# EAGLE library part 105164-0001 (library 105164-0001)
Micro-USB B Receptacle without Flange, Top Mount, Surface Mount, Lead-Free
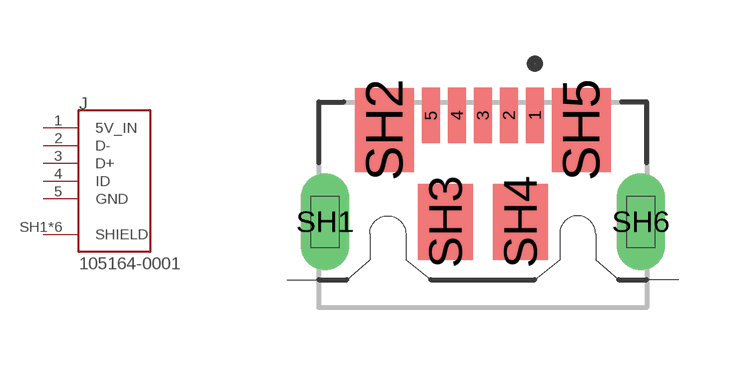
[diagram p0: symbol with the pads of MOLEX_105164-0001; footprint MOLEX_105164-0001]

Designator prefix J

## 105164-0001 (AVAILABILITY: Unavailable; DESCRIPTION: Micro-USB B Receptacle without Flange, Top Mount, Surface Mount, Lead-Free; MF: Molex; MP: 105164-0001; PACKAGE: None; PRICE: None)  [MOLEX_105164-0001]
1  5V_IN  pas
2  D-  pas
3  D+  pas
4  ID  pas
5  GND  pas
SH1  SHIELD  pas
SH2  SHIELD  pas
SH3  SHIELD  pas
SH4  SHIELD  pas
SH5  SHIELD  pas
SH6  SHIELD  pas

## Footprint MOLEX_105164-0001 (pad centres in mm)
smd 0.45 x 1.38: 1 1.3,4.11; 2 0.65,4.11; 3 0,4.11; 4 -0.65,4.11; 5 -1.3,4.11
drill 0.7 long: SH1 -3.95,1.45; SH6 3.95,1.45
smd 1.475 x 2.1: SH2 -2.462,3.75; SH5 2.462,3.75
smd 1.375 x 1.9: SH3 -0.938,1.45; SH4 0.938,1.45